# EAGLE library part 74HC154PW,118 (library 74HC154PW_118)
Encoders, Decoders, Multiplexers & Demultiplexers 4-16 DECODER/DEMUX Source: Datasheet <https://assets.nexperia.com/documents/data-sheet/74HC_HCT154.pdf>
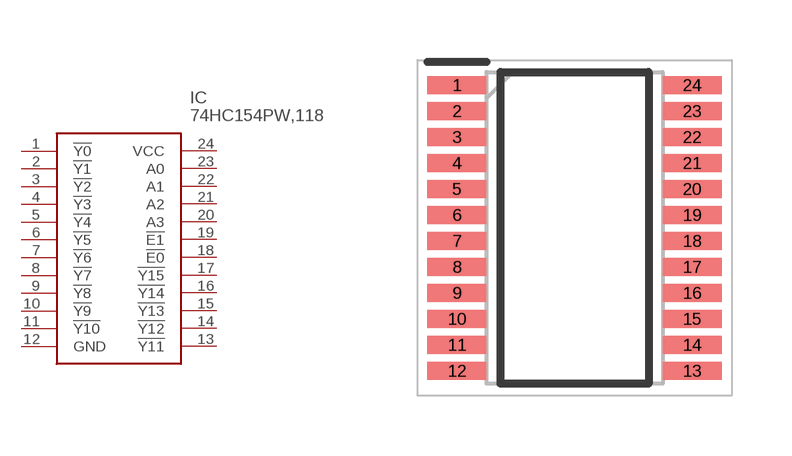
[diagram p0: symbol with the pads of SOP65P640X110-24N; footprint SOP65P640X110-24N]

Designator prefix IC

## 74HC154PW,118 (Arrow_Part_Number: 74HC154PW,118; Arrow_Price-Stock: https://www.arrow.com/en/products/74hc154pw118/nexperia?region=nac; Description: Encoders, Decoders, Multiplexers & Demultiplexers 4-16 DECODER/DEMUX; Height: 1.1mm; Manufacturer_Name: Nexperia; Manufacturer_Part_Number: 74HC154PW,118; Mouser_Part_Number: 771-HC154PW118; Mouser_Price-Stock: https://www.mouser.co.uk/ProductDetail/Nexperia/74HC154PW118?qs=P62ublwmbi9%252BzQcGRVZVsg%3D%3D)  [SOP65P640X110-24N]
1  !Y0
2  !Y1
3  !Y2
4  !Y3
5  !Y4
6  !Y5
7  !Y6
8  !Y7
9  !Y8
10  !Y9
11  !Y10
12  GND
13  !Y11
14  !Y12
15  !Y13
16  !Y14
17  !Y15
18  !E0
19  !E1
20  A3
21  A2
22  A1
23  A0
24  VCC

## Footprint SOP65P640X110-24N (pad centres in mm)
SOT355-1
smd 1.475 x 0.45: 1 -2.938,3.575; 2 -2.938,2.925; 3 -2.938,2.275; 4 -2.938,1.625; 5 -2.938,0.975; 6 -2.938,0.325; 7 -2.938,-0.325; 8 -2.938,-0.975; 9 -2.938,-1.625; 10 -2.938,-2.275; 11 -2.938,-2.925; 12 -2.938,-3.575; 13 2.938,-3.575; 14 2.938,-2.925; 15 2.938,-2.275; 16 2.938,-1.625; 17 2.938,-0.975; 18 2.938,-0.325; 19 2.938,0.325; 20 2.938,0.975; 21 2.938,1.625; 22 2.938,2.275; 23 2.938,2.925; 24 2.938,3.575